# EAGLE library part STM32F050F (library stm32f050)
STM32F050F - Coretex-M0 48 MHz; 4 kB RAM; 16/32 kB FLASH
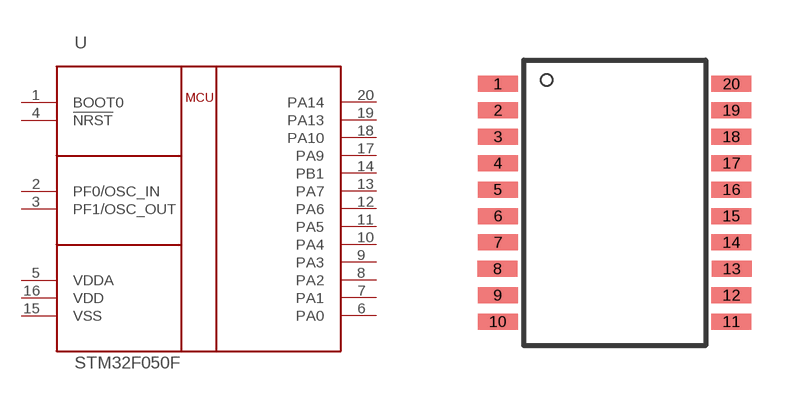
[diagram p0: symbol with the pads of TSSOP20; footprint TSSOP20]

Designator prefix -

## STM32F050F  [TSSOP20]
1  BOOT0  in
2  PF0/OSC_IN
3  PF1/OSC_OUT
4  !NRST  in
5  VDDA  pwr
6  PA0
7  PA1
8  PA2
9  PA3
10  PA4
11  PA5
12  PA6
13  PA7
14  PB1
15  VSS  pwr
16  VDD  pwr
17  PA9
18  PA10
19  PA13
20  PA14

## Footprint TSSOP20 (pad centres in mm)
smd 1 x 0.4: 1 -2.937,2.693; 2 -2.937,2.032; 3 -2.937,1.372; 4 -2.937,0.712; 5 -2.937,0.051; 6 -2.937,-0.609; 7 -2.937,-1.27; 8 -2.943,-1.93; 9 -2.937,-2.59; 10 -2.937,-3.251; 11 2.905,-3.251; 12 2.905,-2.59; 13 2.911,-1.93; 14 2.905,-1.27; 15 2.905,-0.609; 16 2.905,0.051; 17 2.905,0.712; 18 2.905,1.372; 19 2.905,2.032; 20 2.905,2.693